# EAGLE library part MPU_9250 (library arcs_library)
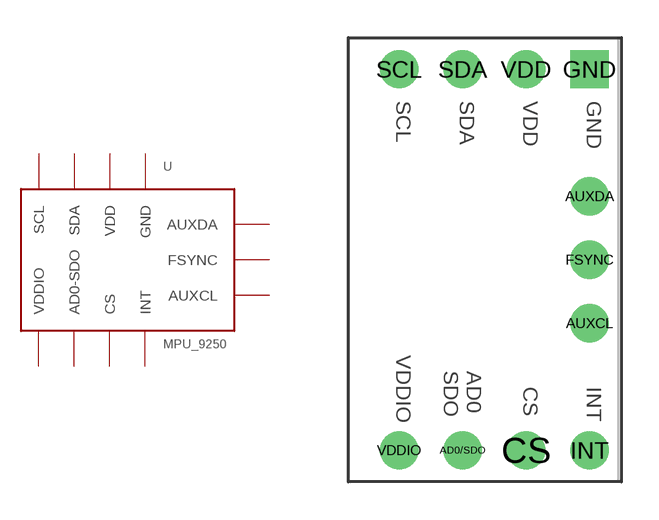
[diagram p11: symbol with the pads of MPU-9250; footprint MPU-9250]

Designator prefix -

## MPU_9250  [MPU-9250]
AD0/SDO  AD0-SDO
AUXCL  AUXCL
AUXDA  AUXDA
CS  CS
FSYNC  FSYNC
GND  GND
INT  INT
SCL  SCL
SDA  SDA
VDD  VDD
VDDIO  VDDIO

## Footprint MPU-9250 (pad centres in mm)
drill 1.02: AD0/SDO 4.572,1.27; AUXCL 9.652,6.35; AUXDA 9.652,11.43; CS 7.112,1.27; FSYNC 9.652,8.89; INT 9.652,1.27; SCL 2.032,16.51; SDA 4.572,16.51; VDD 7.112,16.51; VDDIO 2.032,1.27
drill 1.02 square: GND 9.652,16.51